# Altium schematic symbol library INA169NA.SCHLIB: 1 symbol
Pins are listed as number, name and electrical type; pins without a type are passive.

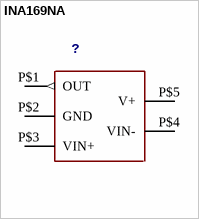
[diagram p0: symbol INA169NA]

## INA169NA
designator ?
footprint SOT23
pins: P$1 OUT (out), P$2 GND (power), P$3 VIN+, P$4 VIN-, P$5 V+ (power)